# Altium footprint library IND_EPCOS_B82432A_EPC.PcbLib: 1 footprints
Each footprint in its own frame and in the unit in brackets; x right, y up, seen from the top. Pads: shape width x height; smd on the part's side, far side on the other; paste and mask are expansions set on the pad; w line width, h text height; cw(c..) or ccw(c..) is an arc to the next point about the centre after c.
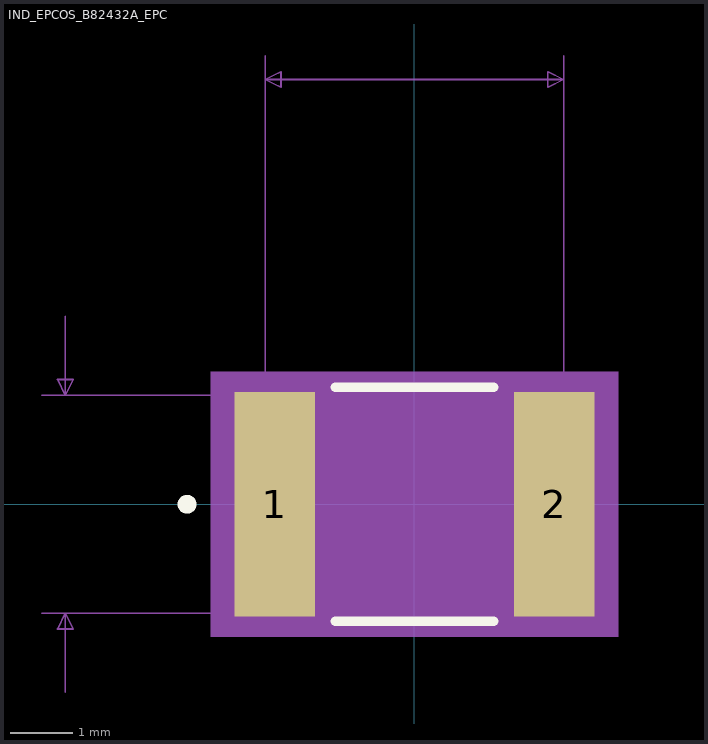
[diagram p0: the footprint, top view; thin cyan lines are the x and y axes]

## IND_EPCOS_B82432A_EPC [mil]
pads (2):
  rect 51x142 smd paste+0 mask+0: 1(-88.5,0) 2(88.5,0)
Top Overlay:
  circle w6: c-144,0 r3
  lines w6: -50.25,-74 50.25,-74 ; -50.25,74 50.25,74
Mechanical 5:
  region: 129,-84 -129,-84 -129,84 129,84
Mechanical 7:
  lines w1: -236,-69 104.5,-69 ; -236,69 104.5,69 ; -221,-119 -221,-69 ; -221,119 -221,69 ; -94.5,81 -94.5,284 ; 94.5,81 94.5,284 ; -221,-69 -216,-79 -226,-79 -221,-69 ; -221,69 -216,79 -226,79 -221,69 ; -94.5,269 -84.5,264 -84.5,274 -94.5,269 ; -94.5,269 94.5,269 ; 94.5,269 84.5,264 84.5,274 94.5,269
  text "0.138in/3.505mm" at -428.5,-12.5 h25
  text "0.189in/4.801mm" at -93.75,289 h25
  text "Alt 2 Pad Style: c229h76" at -300,-381 h50
  text "Alt 1 Pad Style: b152_229h76" at -350,-331 h50
  text "Default Pad Style: r130_361" at -337.5,-281 h50
Mechanical 13:
  circle w0: c-91.5,0 r3
  lines w1: -94.5,-69 -94.5,69 94.5,69 94.5,-69 -94.5,-69
Mechanical 15:
  region: -104.5,-81 -124,-81 -124,81 -104.5,81 104.5,81 124,81 124,-81 104.5,-81
  lines w6: -124,-81 -104.5,-81 104.5,-81 124,-81 124,81 104.5,81 -104.5,81 -124,81 -124,-81
3D body "IND_EPCOS_B82432A_EPC.step": height 134.09, standoff -0.12, extent -93.5,-69.09 95.48,69.1
3D body: height 10, standoff 0, extent 0,0 10,10